# EAGLE library part OPA1632 (library NewSDR)
Texas Instruments High Speed, Low Noise, Fully Differential I/O Amplifier
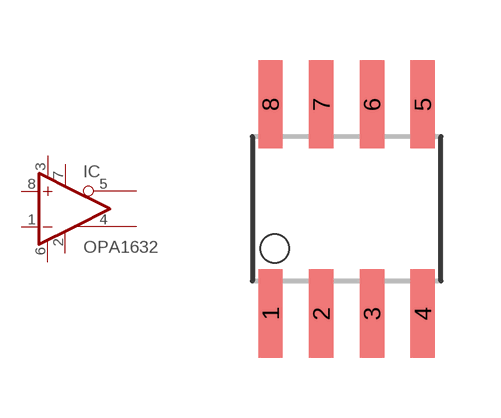
[diagram p7: symbol with the pads of SO8; footprint SO8]

Designator prefix IC

## OPA1632  [SO8]
1  -IN  in
2  VOCM  pwr
3  V+  pwr
4  +OUT  out
5  -OUT  out
6  V-  pwr
7  EN  in
8  +IN  in

## Footprint SO8 (pad centres in mm)
smd 0.61 x 2.21: 1 -1.905,-2.616; 2 -0.635,-2.616; 3 0.635,-2.616; 4 1.905,-2.616; 5 1.905,2.616; 6 0.635,2.616; 7 -0.635,2.616; 8 -1.905,2.616